# EAGLE library part 15_0.65MM (library custom)
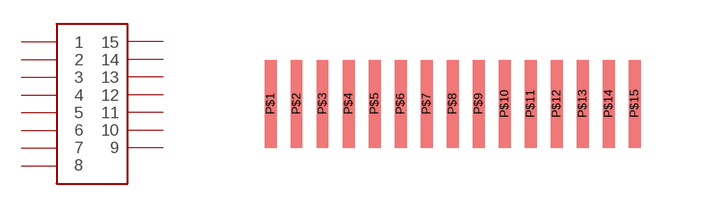
[diagram p13: symbol with the pads of 15_0.65MM; footprint 15_0.65MM]

Designator prefix -

## 15_0.65MM  [15_0.65MM]
P$1  P$1
P$2  P$2
P$3  P$3
P$4  P$4
P$5  P$5
P$6  P$6
P$7  P$7
P$8  P$8
P$9  P$9
P$10  P$10
P$11  P$11
P$12  P$12
P$13  P$13
P$14  P$14
P$15  P$15

## Footprint 15_0.65MM (pad centres in mm)
smd 0.3 x 2.2: P$1 -4.02,-0.59; P$2 -3.37,-0.59; P$3 -2.72,-0.59; P$4 -2.07,-0.59; P$5 -1.42,-0.59; P$6 -0.77,-0.59; P$7 -0.12,-0.59; P$8 0.53,-0.59; P$9 1.18,-0.59; P$10 1.83,-0.59; P$11 2.48,-0.59; P$12 3.13,-0.59; P$13 3.78,-0.59; P$14 4.43,-0.59; P$15 5.08,-0.59